# Altium footprint library Diodes.PcbLib: 8 footprints
Each footprint in its own frame and in the unit in brackets; x right, y up, seen from the top. Pads: shape width x height; smd on the part's side, far side on the other; paste and mask are expansions set on the pad; w line width, h text height; cw(c..) or ccw(c..) is an arc to the next point about the centre after c.
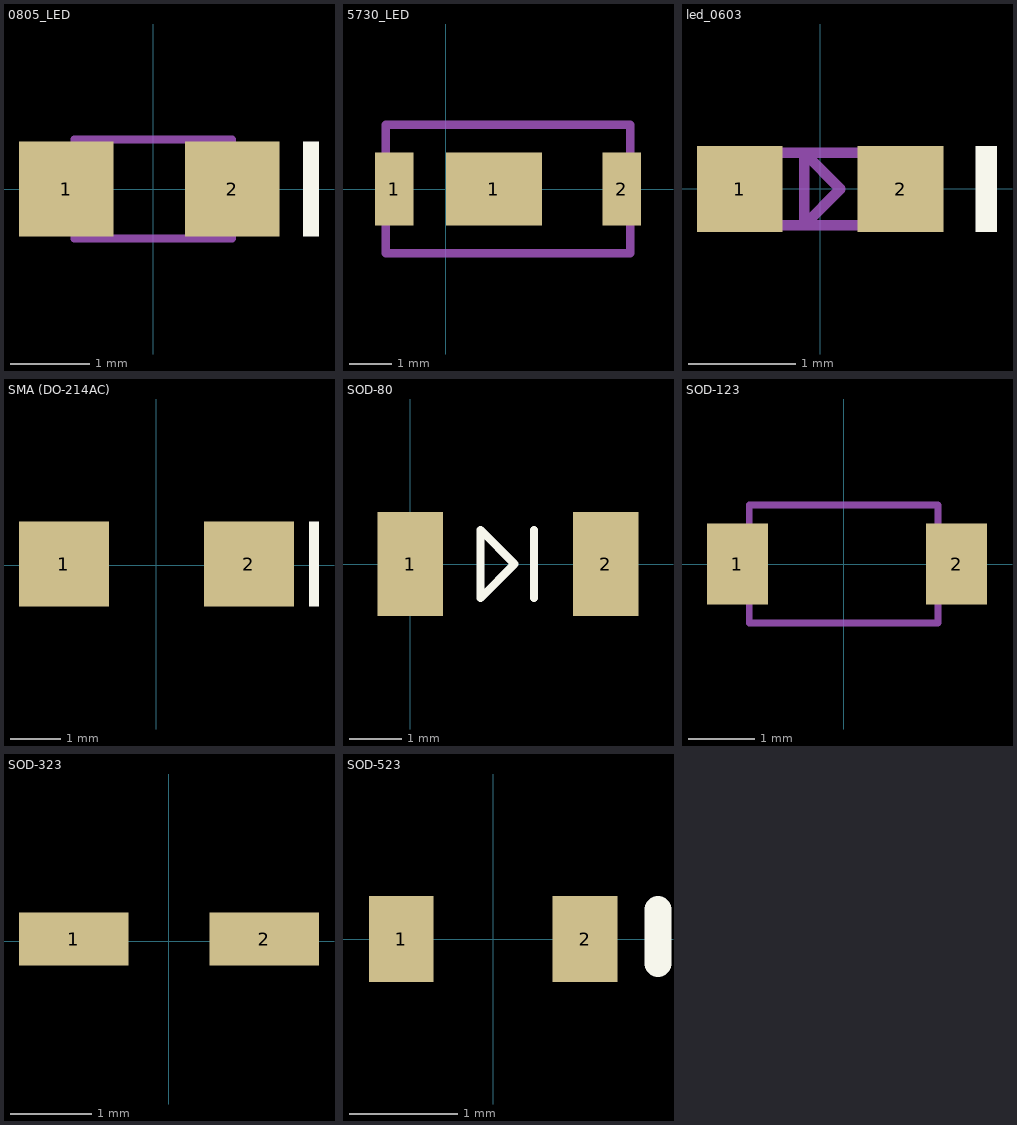
[diagram p0: the footprints below, top view; thin cyan lines are the x and y axes]

## 0805_LED [mm]
pads (2):
  rect 1.2x1.2 smd: 1(-1.1,0) 2(1,0)
Top Overlay:
  rectangle: 1.9,-0.6 2.1,0.6
Mechanical 13:
  lines w0.1: -1,-0.625 -1,0.625 1,0.625 1,-0.625 -1,-0.625

## 5730_LED [mm]
pads (3):
  rect 0.9x1.7 smd: 1(-1.2,-0.003) 2(4.1,-0.003)
  rect 2.25x1.7 smd: 1(1.123,-0.003)
Mechanical 13:
  lines w0.2: -1.4,-1.5 4.3,-1.5 4.3,1.5 -1.4,1.5 -1.4,-1.5

## led_0603 [mm]
pads (2):
  rect 0.8x0.8 smd: 1(-0.75,0) 2(0.75,0)
Top Overlay:
  rectangle: 1.45,-0.4 1.65,0.4
Mechanical 13:
  lines w0.1: -0.75,-0.338 -0.75,0.337 0.75,0.337 0.75,-0.338 -0.75,-0.338 ; -0.15,-0.338 0.188,0 -0.15,0.337 -0.15,-0.338
3D body "0603_led.STEP": height 0.7, standoff 0, extent -0.8,-0.4 0.8,0.4

## SMA (DO-214AC) [mm]
pads (2):
  rect 1.8x1.7 smd: 1(-1.85,0.025) 2(1.85,0.025)
Top Overlay:
  rectangle: 3.05,-0.825 3.25,0.875
3D body "SMA.STEP": height 2.5, standoff 0, extent -2.57,-1.28 2.57,1.28

## SOD-80 [mm]
pads (2):
  rect 1.25x2 smd: 1(0,0) 2(3.75,0)
Top Overlay:
  lines w0.15: 2.375,-0.65 2.375,0.65 ; 1.35,-0.65 1.35,0.65 2,0 1.35,-0.65

## SOD-123 [mil]
pads (2):
  rect 36x48 smd: 1(-63,0) 2(67,0)
Mechanical 13:
  lines w4: -56,-35 -56,35 56,35 56,-35 -56,-35

## SOD-323 [mm] "(SC76, UMD2,"
pads (2):
  rect 1.35x0.65 smd: 1(-1.175,0.025) 2(1.175,0.025)

## SOD-523 [mm]
pads (2):
  rect 0.6x0.8 smd: 1(-0.85,0) 2(0.85,0)
Top Overlay:
  lines w0.25: 1.525,-0.225 1.525,0.275
3D body "SOD523.STEP": height 0.7, standoff 0, extent -0.8,-0.4 0.8,0.4